# EAGLE library part 74*114 (library 74ttl-din)
Dual J-K negative edge triggered FLIP FLOP, preset, common clear, clock
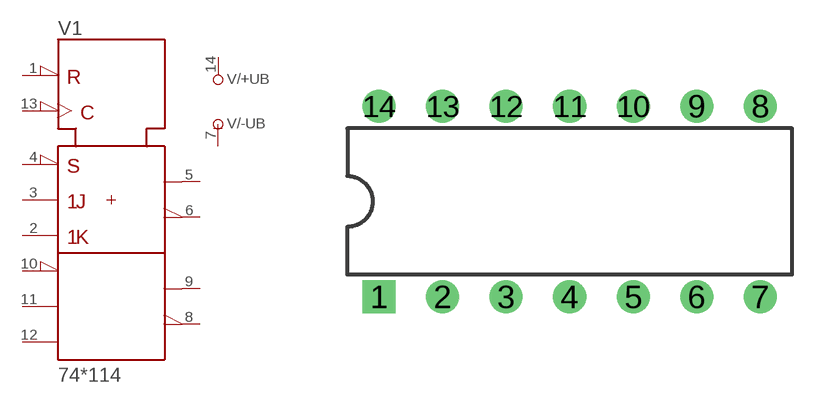
[diagram p31: symbol with the pads of DIL14; footprint DIL14]

Designator prefix V; gates /+UB=+UB /-UB=-UB 1=114

## 74114N  [DIL14]
1  1:!CLR  in
2  1:1K  in
3  1:1J  in
4  1:!1PRE  in
5  1:1Q  out
6  1:!1Q  out
7  /-UB:-UB  pwr
8  1:!2Q  out
9  1:2Q  out
10  1:!2PRE  in
11  1:2J  in
12  1:2K  in
13  1:CLK  in
14  /+UB:+UB  pwr

## Footprint DIL14 (pad centres in mm)
Dual In Line Package
drill 0.813 square: 1 -7.62,-3.81
drill 0.813: 2 -5.08,-3.81; 3 -2.54,-3.81; 4 0,-3.81; 5 2.54,-3.81; 6 5.08,-3.81; 7 7.62,-3.81; 8 7.62,3.81; 9 5.08,3.81; 10 2.54,3.81; 11 0,3.81; 12 -2.54,3.81; 13 -5.08,3.81; 14 -7.62,3.81